# Altium footprint library Termistor.PcbLib: 2 footprints
Each footprint in its own frame and in the unit in brackets; x right, y up, seen from the top. Pads: shape width x height; smd on the part's side, far side on the other; paste and mask are expansions set on the pad; w line width, h text height; cw(c..) or ccw(c..) is an arc to the next point about the centre after c.
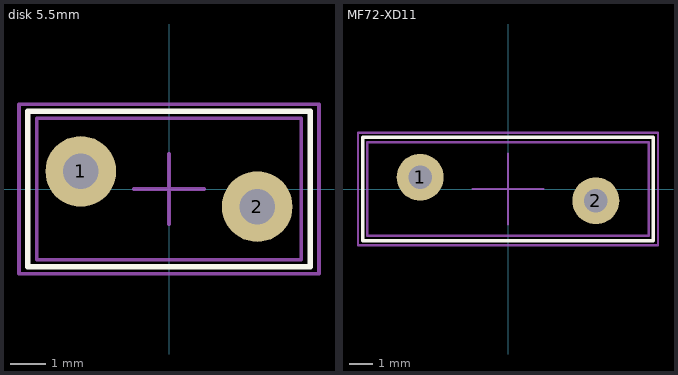
[diagram p0: the footprints below, top view; thin cyan lines are the x and y axes]

## disk 5.5mm [mm] "NTC термистор"
pads (2):
  round 2 hole 1: 1(-2.5,0.5) 2(2.5,-0.5)
Top Overlay:
  lines w0.15: -4,-2.2 4,-2.2 4,2.2 -4,2.2 -4,-2.2
Mechanical 7:
  lines w0.1: -3.75,-2 3.75,-2 3.75,2 -3.75,2 -3.75,-2
Mechanical 9:
  text ".Designator" at -5.5,3.6 h3.5
Mechanical 10:
  text ".Comment" at -2.8,-4 h2
Mechanical 15:
  lines w0.1: -1,0 1,0 ; 0,-1 0,1 ; -4.25,-2.4 -4.25,2.4 4.25,2.4 4.25,-2.4 -4.25,-2.4
3D body "User Library-Cer-Cap2_5 (5x1_5).step": height 5.5, standoff -2.5, extent -2.739,-1.133 2.739,1.134

## MF72-XD11 [mm] "NTC термистор"
pads (2):
  round 2 hole 1: 1(-3.75,0.5) 2(3.75,-0.5)
Top Overlay:
  lines w0.15: -6.2,-2.2 6.2,-2.2 6.2,2.2 -6.2,2.2 -6.2,-2.2
Mechanical 7:
  lines w0.1: -6,-2 6,-2 6,2 -6,2 -6,-2
Mechanical 9:
  text ".Designator" at -5.5,3.6 h3.5
Mechanical 10:
  text ".Comment" at -2.8,-4 h2
Mechanical 15:
  lines w0.1: -1.5,0 1.5,0 ; 0,-1.5 0,1.5 ; -6.4,-2.4 -6.4,2.4 6.4,2.4 6.4,-2.4 -6.4,-2.4
3D body "User Library-SIOV-S10K11.step": height 14, standoff -29, extent -5.997,-2 5.996,2